# EAGLE library part C2000_LAUNCHPAD (library TI)
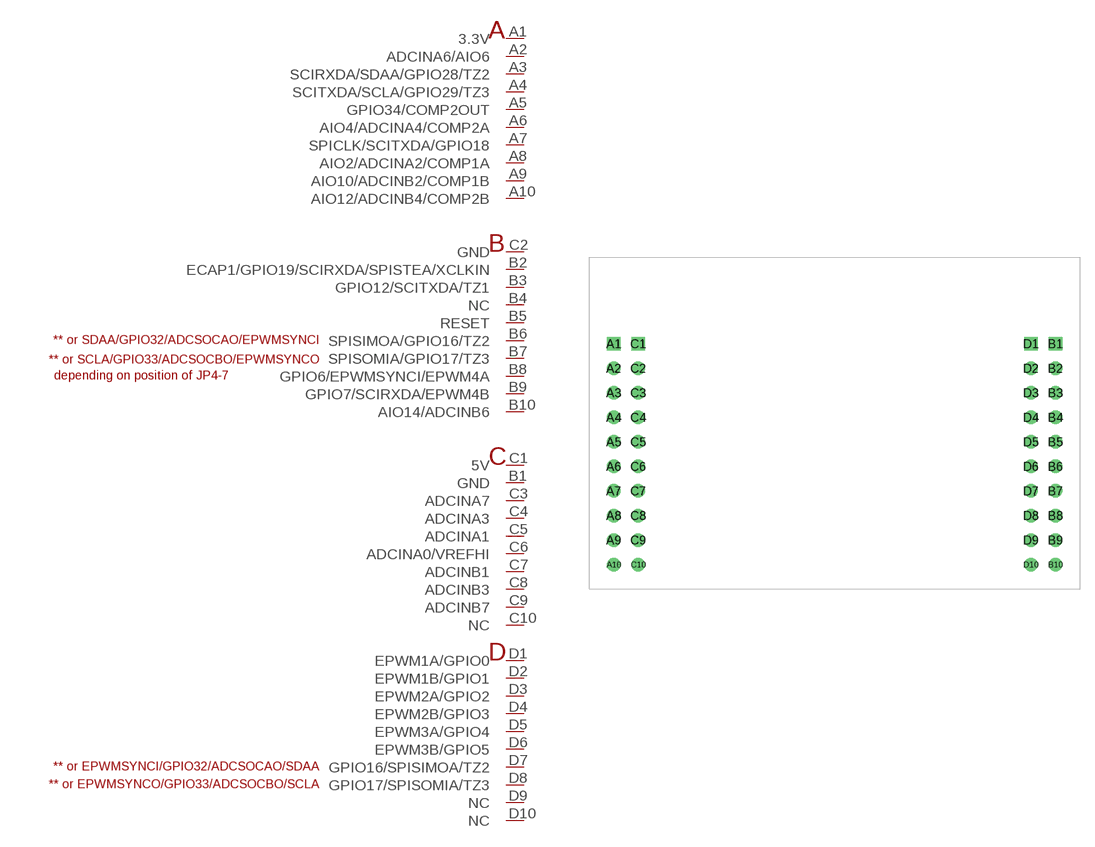
[diagram p0: symbol with the pads of LAUNCHPAD-BOOSTERPACK-40; footprint LAUNCHPAD-BOOSTERPACK-40]

Designator prefix -

## C2000_LAUNCHPAD  [LAUNCHPAD-BOOSTERPACK-40]
A1  3.3V  pwr
A2  ADCINA6/AIO6
A3  SCIRXDA/SDAA/GPIO28/TZ2
A4  SCITXDA/SCLA/GPIO29/TZ3
A5  GPIO34/COMP2OUT
A6  AIO4/ADCINA4/COMP2A
A7  SPICLK/SCITXDA/GPIO18
A8  AIO2/ADCINA2/COMP1A
A9  AIO10/ADCINB2/COMP1B
A10  AIO12/ADCINB4/COMP2B
B1  GND  pwr
B2  ECAP1/GPIO19/SCIRXDA/SPISTEA/XCLKIN
B3  GPIO12/SCITXDA/TZ1
B4  NC  nc
B5  RESET  in
B6  SPISIMOA/GPIO16/TZ2
B7  SPISOMIA/GPIO17/TZ3
B8  GPIO6/EPWMSYNCI/EPWM4A
B9  GPIO7/SCIRXDA/EPWM4B
B10  AIO14/ADCINB6
C1  5V  pwr
C2  GND  pwr
C3  ADCINA7  in
C4  ADCINA3  in
C5  ADCINA1  in
C6  ADCINA0/VREFHI  in
C7  ADCINB1  in
C8  ADCINB3  in
C9  ADCINB7  in
C10  NC  nc
D1  EPWM1A/GPIO0
D2  EPWM1B/GPIO1
D3  EPWM2A/GPIO2
D4  EPWM2B/GPIO3
D5  EPWM3A/GPIO4
D6  EPWM3B/GPIO5
D7  GPIO16/SPISIMOA/TZ2
D8  GPIO17/SPISOMIA/TZ3
D9  NC  nc
D10  NC  nc

## Footprint LAUNCHPAD-BOOSTERPACK-40 (pad centres in mm)
drill 0.889 square: A1 -22.86,-8.89; B1 22.86,-8.89; C1 -20.32,-8.89; D1 20.32,-8.89
drill 0.889 round: A2 -22.86,-11.43; A3 -22.86,-13.97; A4 -22.86,-16.51; A5 -22.86,-19.05; A6 -22.86,-21.59; A7 -22.86,-24.13; A8 -22.86,-26.67; A9 -22.86,-29.21; A10 -22.86,-31.75; B2 22.86,-11.43; B3 22.86,-13.97; B4 22.86,-16.51; B5 22.86,-19.05; B6 22.86,-21.59; B7 22.86,-24.13; B8 22.86,-26.67; B9 22.86,-29.21; B10 22.86,-31.75; C2 -20.32,-11.43; C3 -20.32,-13.97; C4 -20.32,-16.51; C5 -20.32,-19.05; C6 -20.32,-21.59; C7 -20.32,-24.13; C8 -20.32,-26.67; C9 -20.32,-29.21; C10 -20.32,-31.75; D2 20.32,-11.43; D3 20.32,-13.97; D4 20.32,-16.51; D5 20.32,-19.05; D6 20.32,-21.59; D7 20.32,-24.13; D8 20.32,-26.67; D9 20.32,-29.21; D10 20.32,-31.75